# EAGLE library part 62502022323 (library Wire-to-Board)
WR-BHD 2.00mm Board to Cable Transition Connector, 20 Pins=>Code : Con_WTB_IDC_62502022323 <http://katalog.we-online.de/media/thumbs2/eican/thb_Con_WTB_IDC_6250xx22323_pf2.jpg> Details see: http://katalog.we-online.de/en/em/625_0xx_223_23 Created 2014-06-05, Karrer Zheng 2014 (C) Würth Elektronik
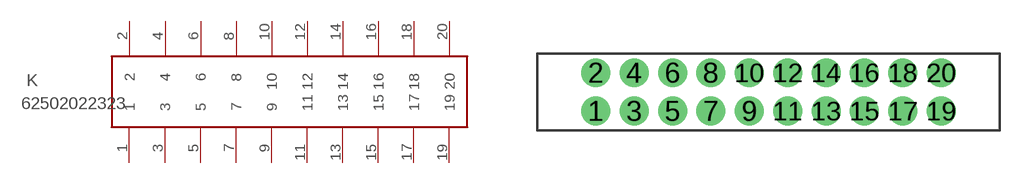
[diagram p229: symbol with the pads of 62502022323; footprint 62502022323]

Designator prefix K

## 62502022323  [62502022323]
1  1  pas
2  2  pas
3  3  pas
4  4  pas
5  5  pas
6  6  pas
7  7  pas
8  8  pas
9  9  pas
10  10  pas
11  11  pas
12  12  pas
13  13  pas
14  14  pas
15  15  pas
16  16  pas
17  17  pas
18  18  pas
19  19  pas
20  20  pas

## Footprint 62502022323 (pad centres in mm)
WR-BHD-2.00mm Board to Cable Transition Connector,20 pins
drill 1: 1 -6,-1; 2 -6,1; 3 -4,-1; 4 -4,1; 5 -2,-1; 6 -2,1; 7 0,-1; 8 0,1; 9 2,-1; 10 2,1; 11 4,-1; 12 4,1; 13 6,-1; 14 6,1; 15 8,-1; 16 8,1; 17 10,-1; 18 10,1; 19 12,-1; 20 12,1